# Altium schematic symbol library INA138_Components - 20.03.22 - 21.25.SchLib: 1 symbol
Pins are listed as number, name and electrical type; pins without a type are passive.

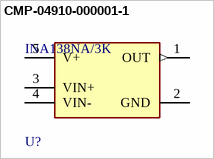
[diagram p0: symbol CMP-04910-000001-1]

## CMP-04910-000001-1
designator U?, comment INA138NA/3K
IC CURRENT MONITOR 0.5% SOT23-5; Manufacturer: Texas Instruments; Nominal Supply Current: 60uA; Number Of Outputs: 1; Max Junction Temp: +150°C; Min Supply Voltage: 2.7V; Max Supply Voltage: 36V; Standoff Height: 0mm; Octopart: https://octopart.com/ina138na%2F3k-texas+instruments-433805; Height: 1.45mm; Package: DBV0005A; Device Class L3: unset; Temperature Range Low: -40°C; Category: IC; Automotive: No; Lead Free: Yes; Manufacturer Part Number: INA138NA/3K; Ambient Temperature Range Low: -40°C; ComponentLink2URL: http://www.ti.com/lit/ds/symlink/ina138.pdf; ComponentLink2Description: Datasheet; Device Class L1: Integrated Circuits (ICs); Temperature: -40°C to +125°C; Device Class L2: Power Management ICs; Ambient Temperature Range High: +125°C; Mouser Description: Current & Power Monitors & Regulators Hi-Sd Msmnt Current Shunt Mntr Crnt Otp; Digikey Description: IC CURRENT MONITOR 0.5% SOT23-5; RoHS: TRUE; Temperature Range High: +125°C
footprint FP-DBV0005A-IPC_A
footprint FP-DBV0005A-IPC_B
footprint FP-DBV0005A-MFG
footprint FP-DBV0005A-IPC_C
pins: 1 OUT (out), 2 GND (power), 3 VIN+ (power), 4 VIN- (power), 5 V+ (power)